# Altium schematic symbol library SW_TACTILE_SPST_NO_SMD.SchLib: 1 symbol
Pins are listed as number, name and electrical type; pins without a type are passive.

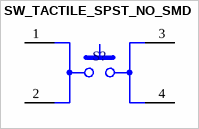
[diagram p0: symbol SW_TACTILE_SPST_NO_SMD]

## SW_TACTILE_SPST_NO_SMD
designator S?, comment SWITCH TACTILE SPST-NO 0.05A 12V  (value not drawn)
Tactile Switch SPST-NO Top Actuated Surface Mount; Supplier 1: Digi-Key; Supplier Part Number 1: 732-13659-1-ND
footprint SW_TACTILE_SPST_NO_SMD
pins: 1, 2, 3, 4